# Altium footprint library QFP - Corner Index.PcbLib: 29 footprints (part 2 of 2)
Each footprint in its own frame and in the unit in brackets; x right, y up, seen from the top. Pads: shape width x height; smd on the part's side, far side on the other; paste and mask are expansions set on the pad; w line width, h text height; cw(c..) or ccw(c..) is an arc to the next point about the centre after c.
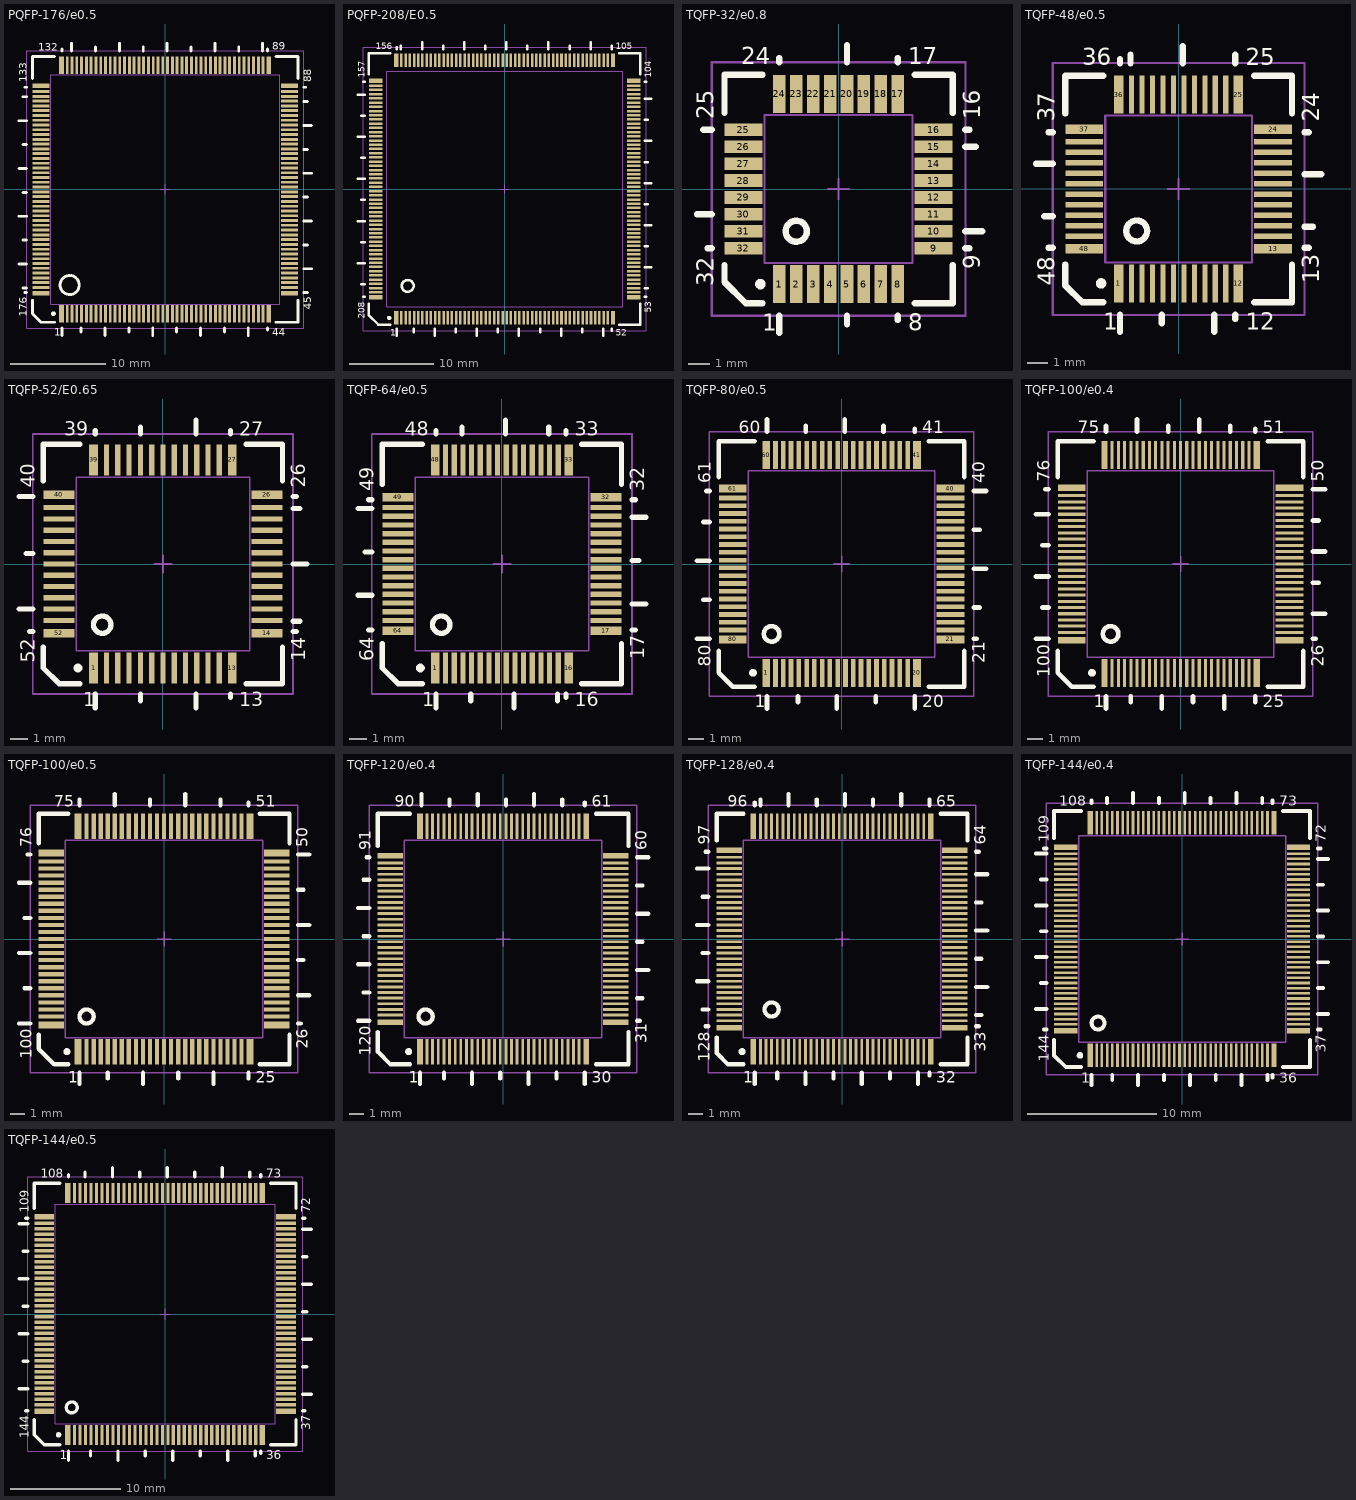
[diagram p1: the footprints below, top view; thin cyan lines are the x and y axes]

## PQFP-176/e0.5 [mm] "PQFP-176; JEDEC MS-026BGA; Body 24.00x24.00x1.40mm; Pitch 0.5mm;"
height 1.4
pads (176):
  rect 0.5x1.8 smd mask+0.1: 1(-10.85,-13) 44(10.85,-13) 89(10.85,13) 132(-10.85,13)
  rect 0.3x1.8 smd mask+0.1: 2(-10.25,-13) 3(-9.75,-13) 4(-9.25,-13) 5(-8.75,-13) 6(-8.25,-13) 7(-7.75,-13) 8(-7.25,-13) 9(-6.75,-13) 10(-6.25,-13) 11(-5.75,-13) 12(-5.25,-13) 13(-4.75,-13) 14(-4.25,-13) 15(-3.75,-13) 16(-3.25,-13) 17(-2.75,-13) 18(-2.25,-13) 19(-1.75,-13) 20(-1.25,-13) 21(-0.75,-13) 22(-0.25,-13) 23(0.25,-13) 24(0.75,-13) 25(1.25,-13) 26(1.75,-13) 27(2.25,-13) 28(2.75,-13) 29(3.25,-13) 30(3.75,-13) 31(4.25,-13) 32(4.75,-13) 33(5.25,-13) 34(5.75,-13) 35(6.25,-13) 36(6.75,-13) 37(7.25,-13) 38(7.75,-13) 39(8.25,-13) 40(8.75,-13) 41(9.25,-13) 42(9.75,-13) 43(10.25,-13) 90(10.25,13) 91(9.75,13) 92(9.25,13) 93(8.75,13) 94(8.25,13) 95(7.75,13) 96(7.25,13) 97(6.75,13) 98(6.25,13) 99(5.75,13) 100(5.25,13) 101(4.75,13) 102(4.25,13) 103(3.75,13) 104(3.25,13) 105(2.75,13) 106(2.25,13) 107(1.75,13) 108(1.25,13) 109(0.75,13) 110(0.25,13) 111(-0.25,13) 112(-0.75,13) 113(-1.25,13) 114(-1.75,13) 115(-2.25,13) 116(-2.75,13) 117(-3.25,13) 118(-3.75,13) 119(-4.25,13) 120(-4.75,13) 121(-5.25,13) 122(-5.75,13) 123(-6.25,13) 124(-6.75,13) 125(-7.25,13) 126(-7.75,13) 127(-8.25,13) 128(-8.75,13) 129(-9.25,13) 130(-9.75,13) 131(-10.25,13)
  rect 1.8x0.5 smd mask+0.1: 45(13,-10.85) 88(13,10.85) 133(-13,10.85) 176(-13,-10.85)
  rect 1.8x0.3 smd mask+0.1: 46(13,-10.25) 47(13,-9.75) 48(13,-9.25) 49(13,-8.75) 50(13,-8.25) 51(13,-7.75) 52(13,-7.25) 53(13,-6.75) 54(13,-6.25) 55(13,-5.75) 56(13,-5.25) 57(13,-4.75) 58(13,-4.25) 59(13,-3.75) 60(13,-3.25) 61(13,-2.75) 62(13,-2.25) 63(13,-1.75) 64(13,-1.25) 65(13,-0.75) 66(13,-0.25) 67(13,0.25) 68(13,0.75) 69(13,1.25) 70(13,1.75) 71(13,2.25) 72(13,2.75) 73(13,3.25) 74(13,3.75) 75(13,4.25) 76(13,4.75) 77(13,5.25) 78(13,5.75) 79(13,6.25) 80(13,6.75) 81(13,7.25) 82(13,7.75) 83(13,8.25) 84(13,8.75) 85(13,9.25) 86(13,9.75) 87(13,10.25) 134(-13,10.25) 135(-13,9.75) 136(-13,9.25) 137(-13,8.75) 138(-13,8.25) 139(-13,7.75) 140(-13,7.25) 141(-13,6.75) 142(-13,6.25) 143(-13,5.75) 144(-13,5.25) 145(-13,4.75) 146(-13,4.25) 147(-13,3.75) 148(-13,3.25) 149(-13,2.75) 150(-13,2.25) 151(-13,1.75) 152(-13,1.25) 153(-13,0.75) 154(-13,0.25) 155(-13,-0.25) 156(-13,-0.75) 157(-13,-1.25) 158(-13,-1.75) 159(-13,-2.25) 160(-13,-2.75) 161(-13,-3.25) 162(-13,-3.75) 163(-13,-4.25) 164(-13,-4.75) 165(-13,-5.25) 166(-13,-5.75) 167(-13,-6.25) 168(-13,-6.75) 169(-13,-7.25) 170(-13,-7.75) 171(-13,-8.25) 172(-13,-8.75) 173(-13,-9.25) 174(-13,-9.75) 175(-13,-10.25)
Top Overlay:
  circle w0.3: c-10,-10 r1
  circle w0.3: c-11.7,-13 r0.1
  lines w0.3: -15.3,-7.8 -14.5,-7.8 ; -15.3,-2.8 -14.5,-2.8 ; -15.3,2.2 -14.5,2.2 ; -15.3,7.2 -14.5,7.2 ; -14.9,-10.3 -14.5,-10.3 ; -14.9,-5.3 -14.5,-5.3 ; -14.9,-0.3 -14.5,-0.3 ; -14.9,4.7 -14.5,4.7 ; -14.9,9.7 -14.5,9.7 ; -14.7,-10.8 -14.5,-10.8 ; -14.7,10.7 -14.5,10.7 ; -13.9,-11.6 -13.9,-13 -13,-13.9 -11.6,-13.9 ; -13.9,11.6 -13.9,13.9 -11.6,13.9 ; -10.8,-15.3 -10.8,-14.5 ; -10.8,14.5 -10.8,14.7 ; -9.8,14.5 -9.8,15.3 ; -8.8,-14.9 -8.8,-14.5 ; -7.3,14.5 -7.3,14.9 ; -6.3,-15.3 -6.3,-14.5 ; -4.8,14.5 -4.8,15.3 ; -3.8,-14.9 -3.8,-14.5 ; -2.3,14.5 -2.3,14.9 ; -1.3,-15.3 -1.3,-14.5 ; 0.2,14.5 0.2,15.3 ; 1.2,-14.9 1.2,-14.5 ; 2.7,14.5 2.7,14.9 ; 3.7,-15.3 3.7,-14.5 ; 5.2,14.5 5.2,15.3 ; 6.2,-14.9 6.2,-14.5 ; 7.7,14.5 7.7,14.9 ; 8.7,-15.3 8.7,-14.5 ; 10.2,14.5 10.2,15.3 ; 10.7,-14.7 10.7,-14.5 ; 10.7,14.5 10.7,14.7 ; 11.6,-13.9 13.9,-13.9 13.9,-11.6 ; 11.6,13.9 13.9,13.9 13.9,11.6 ; 14.5,-10.8 14.9,-10.8 ; 14.5,-8.3 15.3,-8.3 ; 14.5,-5.8 14.9,-5.8 ; 14.5,-3.3 15.3,-3.3 ; 14.5,-0.8 14.9,-0.8 ; 14.5,1.7 15.3,1.7 ; 14.5,4.2 14.9,4.2 ; 14.5,6.7 15.3,6.7 ; 14.5,9.2 14.9,9.2 ; 14.5,10.7 14.7,10.7
  text "88" at 15.3,11.2 h0.8
  text "45" at 15.3,-12.6 h0.8
  text "44" at 11.2,-15.3 h0.8
  text "1" at -11.6,-15.3 h0.8
  text "89" at 11.2,14.6 h0.8
  text "132" at -13.3,14.5 h0.8
  text "133" at -14.5,11.2 h0.8
  text "176" at -14.5,-13.3 h0.8
Package:
  circle w0.1: c-10,-10 r1
  lines w0.1: -12,-12 12,-12 12,12 -12,12 -12,-12
Courtyard:
  lines w0.1: -0.5,0 0.5,0 ; 0,-0.5 0,0.5 ; -14.5,-14.5 14.5,-14.5 14.5,14.5 -14.5,14.5 -14.5,-14.5
3D body: height 1.4, standoff 0.1, extent -12,-12 12,12

## PQFP-208/E0.5 [mm] "PQFP-208; JEDEC MO-029FA-1; Body 28.00x28.00x3.80mm; Pitch 0.5mm;"
height 3.8
pads (208):
  rect 0.5x1.6 smd mask+0.1: 1(-12.85,-15.3) 52(12.85,-15.3) 105(12.85,15.3) 156(-12.85,15.3)
  rect 0.3x1.6 smd mask+0.1: 2(-12.25,-15.3) 3(-11.75,-15.3) 4(-11.25,-15.3) 5(-10.75,-15.3) 6(-10.25,-15.3) 7(-9.75,-15.3) 8(-9.25,-15.3) 9(-8.75,-15.3) 10(-8.25,-15.3) 11(-7.75,-15.3) 12(-7.25,-15.3) 13(-6.75,-15.3) 14(-6.25,-15.3) 15(-5.75,-15.3) 16(-5.25,-15.3) 17(-4.75,-15.3) 18(-4.25,-15.3) 19(-3.75,-15.3) 20(-3.25,-15.3) 21(-2.75,-15.3) 22(-2.25,-15.3) 23(-1.75,-15.3) 24(-1.25,-15.3) 25(-0.75,-15.3) 26(-0.25,-15.3) 27(0.25,-15.3) 28(0.75,-15.3) 29(1.25,-15.3) 30(1.75,-15.3) 31(2.25,-15.3) 32(2.75,-15.3) 33(3.25,-15.3) 34(3.75,-15.3) 35(4.25,-15.3) 36(4.75,-15.3) 37(5.25,-15.3) 38(5.75,-15.3) 39(6.25,-15.3) 40(6.75,-15.3) 41(7.25,-15.3) 42(7.75,-15.3) 43(8.25,-15.3) 44(8.75,-15.3) 45(9.25,-15.3) 46(9.75,-15.3) 47(10.25,-15.3) 48(10.75,-15.3) 49(11.25,-15.3) 50(11.75,-15.3) 51(12.25,-15.3) 106(12.25,15.3) 107(11.75,15.3) 108(11.25,15.3) 109(10.75,15.3) 110(10.25,15.3) 111(9.75,15.3) 112(9.25,15.3) 113(8.75,15.3) 114(8.25,15.3) 115(7.75,15.3) 116(7.25,15.3) 117(6.75,15.3) 118(6.25,15.3) 119(5.75,15.3) 120(5.25,15.3) 121(4.75,15.3) 122(4.25,15.3) 123(3.75,15.3) 124(3.25,15.3) 125(2.75,15.3) 126(2.25,15.3) 127(1.75,15.3) 128(1.25,15.3) 129(0.75,15.3) 130(0.25,15.3) 131(-0.25,15.3) 132(-0.75,15.3) 133(-1.25,15.3) 134(-1.75,15.3) 135(-2.25,15.3) 136(-2.75,15.3) 137(-3.25,15.3) 138(-3.75,15.3) 139(-4.25,15.3) 140(-4.75,15.3) 141(-5.25,15.3) 142(-5.75,15.3) 143(-6.25,15.3) 144(-6.75,15.3) 145(-7.25,15.3) 146(-7.75,15.3) 147(-8.25,15.3) 148(-8.75,15.3) 149(-9.25,15.3) 150(-9.75,15.3) 151(-10.25,15.3) 152(-10.75,15.3) 153(-11.25,15.3) 154(-11.75,15.3) 155(-12.25,15.3)
  rect 1.6x0.5 smd mask+0.1: 53(15.3,-12.85) 104(15.3,12.85) 157(-15.3,12.85) 208(-15.3,-12.85)
  rect 1.6x0.3 smd mask+0.1: 54(15.3,-12.25) 55(15.3,-11.75) 56(15.3,-11.25) 57(15.3,-10.75) 58(15.3,-10.25) 59(15.3,-9.75) 60(15.3,-9.25) 61(15.3,-8.75) 62(15.3,-8.25) 63(15.3,-7.75) 64(15.3,-7.25) 65(15.3,-6.75) 66(15.3,-6.25) 67(15.3,-5.75) 68(15.3,-5.25) 69(15.3,-4.75) 70(15.3,-4.25) 71(15.3,-3.75) 72(15.3,-3.25) 73(15.3,-2.75) 74(15.3,-2.25) 75(15.3,-1.75) 76(15.3,-1.25) 77(15.3,-0.75) 78(15.3,-0.25) 79(15.3,0.25) 80(15.3,0.75) 81(15.3,1.25) 82(15.3,1.75) 83(15.3,2.25) 84(15.3,2.75) 85(15.3,3.25) 86(15.3,3.75) 87(15.3,4.25) 88(15.3,4.75) 89(15.3,5.25) 90(15.3,5.75) 91(15.3,6.25) 92(15.3,6.75) 93(15.3,7.25) 94(15.3,7.75) 95(15.3,8.25) 96(15.3,8.75) 97(15.3,9.25) 98(15.3,9.75) 99(15.3,10.25) 100(15.3,10.75) 101(15.3,11.25) 102(15.3,11.75) 103(15.3,12.25) 158(-15.3,12.25) 159(-15.3,11.75) 160(-15.3,11.25) 161(-15.3,10.75) 162(-15.3,10.25) 163(-15.3,9.75) 164(-15.3,9.25) 165(-15.3,8.75) 166(-15.3,8.25) 167(-15.3,7.75) 168(-15.3,7.25) 169(-15.3,6.75) 170(-15.3,6.25) 171(-15.3,5.75) 172(-15.3,5.25) 173(-15.3,4.75) 174(-15.3,4.25) 175(-15.3,3.75) 176(-15.3,3.25) 177(-15.3,2.75) 178(-15.3,2.25) 179(-15.3,1.75) 180(-15.3,1.25) 181(-15.3,0.75) 182(-15.3,0.25) 183(-15.3,-0.25) 184(-15.3,-0.75) 185(-15.3,-1.25) 186(-15.3,-1.75) 187(-15.3,-2.25) 188(-15.3,-2.75) 189(-15.3,-3.25) 190(-15.3,-3.75) 191(-15.3,-4.25) 192(-15.3,-4.75) 193(-15.3,-5.25) 194(-15.3,-5.75) 195(-15.3,-6.25) 196(-15.3,-6.75) 197(-15.3,-7.25) 198(-15.3,-7.75) 199(-15.3,-8.25) 200(-15.3,-8.75) 201(-15.3,-9.25) 202(-15.3,-9.75) 203(-15.3,-10.25) 204(-15.3,-10.75) 205(-15.3,-11.25) 206(-15.3,-11.75) 207(-15.3,-12.25)
Top Overlay:
  circle w0.3: c-11.5,-11.5 r0.7
  circle w0.3: c-13.7,-15.3 r0.1
  lines w0.3: -17.4,-8.8 -16.6,-8.8 ; -17.4,-3.8 -16.6,-3.8 ; -17.4,1.2 -16.6,1.2 ; -17.4,6.2 -16.6,6.2 ; -17.4,11.2 -16.6,11.2 ; -17,-11.3 -16.6,-11.3 ; -17,-6.3 -16.6,-6.3 ; -17,-1.3 -16.6,-1.3 ; -17,3.7 -16.6,3.7 ; -17,8.7 -16.6,8.7 ; -16.8,-12.8 -16.6,-12.8 ; -16.8,12.7 -16.6,12.7 ; -16.1,-13.6 -16.1,-15 -15,-16.1 -13.6,-16.1 ; -16.1,13.6 -16.1,16.1 -13.6,16.1 ; -12.8,-17.4 -12.8,-16.6 ; -12.8,16.6 -12.8,16.8 ; -12.3,16.6 -12.3,17 ; -10.8,-17 -10.8,-16.6 ; -9.8,16.6 -9.8,17.4 ; -8.3,-17.4 -8.3,-16.6 ; -7.3,16.6 -7.3,17 ; -5.8,-17 -5.8,-16.6 ; -4.8,16.6 -4.8,17.4 ; -3.3,-17.4 -3.3,-16.6 ; -2.3,16.6 -2.3,17 ; -0.8,-17 -0.8,-16.6 ; 0.2,16.6 0.2,17.4 ; 1.7,-17.4 1.7,-16.6 ; 2.7,16.6 2.7,17 ; 4.2,-17 4.2,-16.6 ; 5.2,16.6 5.2,17.4 ; 6.7,-17.4 6.7,-16.6 ; 7.7,16.6 7.7,17 ; 9.2,-17 9.2,-16.6 ; 10.2,16.6 10.2,17.4 ; 11.7,-17.4 11.7,-16.6 ; 12.7,-16.8 12.7,-16.6 ; 12.7,16.6 12.7,17 ; 13.6,-16.1 16.1,-16.1 16.1,-13.6 ; 13.6,16.1 16.1,16.1 16.1,13.6 ; 16.6,-12.8 16.8,-12.8 ; 16.6,-11.8 17,-11.8 ; 16.6,-9.3 17.4,-9.3 ; 16.6,-6.8 17,-6.8 ; 16.6,-4.3 17.4,-4.3 ; 16.6,-1.8 17,-1.8 ; 16.6,0.7 17.4,0.7 ; 16.6,3.2 17,3.2 ; 16.6,5.7 17.4,5.7 ; 16.6,8.2 17,8.2 ; 16.6,10.7 17.4,10.7 ; 16.6,12.7 16.8,12.7
  text "208" at -16.6,-15.4 h0.8
  text "157" at -16.6,13.2 h0.8
  text "156" at -15.3,16.6 h0.8
  text "105" at 13.2,16.6 h0.8
  text "104" at 17.4,13.2 h0.8
  text "53" at 17.4,-14.7 h0.8
  text "52" at 13.2,-17.4 h0.8
  text "1" at -13.6,-17.4 h0.8
Package:
  circle w0.1: c-11.5,-11.5 r0.7
  lines w0.1: -14,-14 14,-14 14,14 -14,14 -14,-14
Courtyard:
  lines w0.1: -0.5,0 0.5,0 ; 0,-0.5 0,0.5 ; -16.8,-16.8 16.8,-16.8 16.8,16.8 -16.8,16.8 -16.8,-16.8
3D body: height 3.2, standoff 0, extent -14,-14 14,14

## TQFP-32/e0.8 [mm] "TQFP-32; JEDEC MS-026ABA; Body 7.00x7.00x1.00mm; Pitch 0.8mm;"
height 1
pads (32):
  rect 0.6x1.8 smd paste+0 mask+0.1: 1(-2.8,-4.5) 2(-2,-4.5) 4(-0.4,-4.5) 5(0.4,-4.5) 6(1.2,-4.5) 7(2,-4.5) 8(2.8,-4.5) 17(2.8,4.5) 18(2,4.5) 19(1.2,4.5) 20(0.4,4.5) 21(-0.4,4.5) 22(-1.2,4.5) 24(-2.8,4.5)
  rect 0.6x1.8 smd mask+0.1: 3(-1.2,-4.5) 23(-2,4.5)
  rect 1.8x0.6 smd paste+0 mask+0.1: 9(4.5,-2.8) 10(4.5,-2) 12(4.5,-0.4) 13(4.5,0.4) 14(4.5,1.2) 15(4.5,2) 16(4.5,2.8) 26(-4.5,2) 28(-4.5,0.4) 29(-4.5,-0.4) 30(-4.5,-1.2) 31(-4.5,-2) 32(-4.5,-2.8)
  rect 1.8x0.6 smd mask+0.1: 11(4.5,-1.2) 25(-4.5,2.8) 27(-4.5,1.2)
Top Overlay:
  circle w0.3: c-3.7,-4.5 r0.1
  circle w0.3: c-2,-2 r0.5
  lines w0.3: -6.7,-1.2 -6,-1.2 ; -6.4,2.8 -6,2.8 ; -6.2,-2.8 -6,-2.8 ; -5.4,-3.6 -5.4,-4.4 -4.4,-5.4 -3.6,-5.4 ; -5.4,3.6 -5.4,5.4 -3.6,5.4 ; -2.8,-6.8 -2.8,-6 ; -2.8,6 -2.8,6.2 ; 0.4,-6.4 0.4,-6 ; 0.4,6 0.4,6.8 ; 2.8,-6.2 2.8,-6 ; 2.8,6 2.8,6.2 ; 3.6,-5.4 5.4,-5.4 5.4,-3.6 ; 3.6,5.4 5.4,5.4 5.4,3.6 ; 6,-2.8 6.2,-2.8 ; 6,-2 6.8,-2 ; 6,2 6.5,2 ; 6,2.8 6.2,2.8
  text "1" at -3.6,-6.7 h0.8
  text "8" at 3.3,-6.7 h0.8
  text "9" at 6.7,-3.8 h0.8
  text "16" at 6.7,3.3 h0.8
  text "17" at 3.3,5.9 h0.8
  text "24" at -4.6,5.9 h0.8
  text "25" at -5.9,3.3 h0.8
  text "32" at -5.9,-4.6 h0.8
Package:
  circle w0.1: c-2,-2 r0.5
  lines w0.1: -3.5,-3.5 -3.5,3.5 3.5,3.5 3.5,-3.5 -3.5,-3.5
Courtyard:
  lines w0.1: -0.5,0 0.5,0 ; 0,-0.5 0,0.5 ; -6,-6 6,-6 6,6 -6,6 -6,-6
3D body: height 1, standoff 0.1, extent -3.5,-3.5 3.5,3.5

## TQFP-48/e0.5 [mm] "TQFP-48; JEDEC MS-026ABC; Body 7.00x7.00x1.20mm; Pitch 0.5mm;"
height 1.2
pads (48):
  rect 0.45x1.8 smd mask+0.1: 1(-2.85,-4.5)
  rect 0.25x1.8 smd mask+0.125: 2(-2.25,-4.5) 3(-1.75,-4.5) 4(-1.25,-4.5) 5(-0.75,-4.5) 6(-0.25,-4.5) 7(0.25,-4.5) 8(0.75,-4.5) 9(1.25,-4.5) 10(1.75,-4.5) 11(2.25,-4.5) 26(2.25,4.5) 27(1.75,4.5) 28(1.25,4.5) 29(0.75,4.5) 30(0.25,4.5) 31(-0.25,4.5) 32(-0.75,4.5) 33(-1.25,4.5) 34(-1.75,4.5) 35(-2.25,4.5)
  rect 0.45x1.8 smd mask+0.125: 12(2.85,-4.5) 25(2.85,4.5) 36(-2.85,4.5)
  rect 1.8x0.45 smd mask+0.125: 13(4.5,-2.85) 24(4.5,2.85) 37(-4.5,2.85) 48(-4.5,-2.85)
  rect 1.8x0.25 smd mask+0.125: 14(4.5,-2.25) 15(4.5,-1.75) 16(4.5,-1.25) 17(4.5,-0.75) 18(4.5,-0.25) 19(4.5,0.25) 20(4.5,0.75) 21(4.5,1.25) 22(4.5,1.75) 23(4.5,2.25) 38(-4.5,2.25) 39(-4.5,1.75) 40(-4.5,1.25) 41(-4.5,0.75) 42(-4.5,0.25) 43(-4.5,-0.25) 44(-4.5,-0.75) 45(-4.5,-1.25) 46(-4.5,-1.75) 47(-4.5,-2.25)
Top Overlay:
  circle w0.3: c-3.7,-4.5 r0.1
  circle w0.3: c-2,-2 r0.5
  lines w0.3: -6.8,1.2 -6,1.2 ; -6.4,-1.3 -6,-1.3 ; -6.2,-2.8 -6,-2.8 ; -6.2,2.7 -6,2.7 ; -5.4,-3.6 -5.4,-4.6 -4.6,-5.4 -3.6,-5.4 ; -5.4,3.6 -5.4,5.4 -3.6,5.4 ; -2.8,-6.8 -2.8,-6 ; -2.8,6 -2.8,6.2 ; -2.3,6 -2.3,6.4 ; -0.8,-6.4 -0.8,-6 ; 0.2,6 0.2,6.8 ; 1.7,-6.8 1.7,-6 ; 2.7,-6.2 2.7,-6 ; 2.7,6 2.7,6.4 ; 3.6,-5.4 5.4,-5.4 5.4,-3.6 ; 3.6,5.4 5.4,5.4 5.4,3.6 ; 6,-2.8 6.2,-2.8 ; 6,-1.8 6.4,-1.8 ; 6,0.7 6.8,0.7 ; 6,2.7 6.2,2.7
  text "48" at -5.9,-4.6 h0.8
  text "37" at -5.9,3.2 h0.8
  text "36" at -4.6,5.9 h0.8
  text "25" at 3.2,5.9 h0.8
  text "24" at 6.7,3.2 h0.8
  text "13" at 6.7,-4.5 h0.8
  text "12" at 3.2,-6.7 h0.8
  text "1" at -3.6,-6.7 h0.8
Package:
  circle w0.1: c-2,-2 r0.5
  lines w0.1: -3.5,-3.5 3.5,-3.5 3.5,3.5 -3.5,3.5 -3.5,-3.5
Courtyard:
  lines w0.1: -0.5,0 0.5,0 ; 0,-0.5 0,0.5 ; -6,-6 6,-6 6,6 -6,6 -6,-6
3D body: height 1.2, standoff 0, extent -3.5,-3.5 3.5,3.5

## TQFP-52/E0.65 [mm] "TQFP-52; JEDEC MS-026ACC; Body 10.00x10.00x1.00mm; Pitch 0.65mm;"
height 1
pads (52):
  rect 0.5x1.8 smd mask+0.1: 1(-4,-6) 13(4,-6) 27(4,6) 39(-4,6)
  rect 0.3x1.8 smd mask+0.1: 2(-3.25,-6) 3(-2.6,-6) 4(-1.95,-6) 5(-1.3,-6) 6(-0.65,-6) 7(0,-6) 8(0.65,-6) 9(1.3,-6) 10(1.95,-6) 11(2.6,-6) 12(3.25,-6) 28(3.25,6) 29(2.6,6) 30(1.95,6) 31(1.3,6) 32(0.65,6) 33(0,6) 34(-0.65,6) 35(-1.3,6) 36(-1.95,6) 37(-2.6,6) 38(-3.25,6)
  rect 1.8x0.5 smd mask+0.1: 14(6,-4) 26(6,4) 40(-6,4) 52(-6,-4)
  rect 1.8x0.3 smd mask+0.1: 15(6,-3.25) 16(6,-2.6) 17(6,-1.95) 18(6,-1.3) 19(6,-0.65) 20(6,0) 21(6,0.65) 22(6,1.3) 23(6,1.95) 24(6,2.6) 25(6,3.25) 41(-6,3.25) 42(-6,2.6) 43(-6,1.95) 44(-6,1.3) 45(-6,0.65) 46(-6,0) 47(-6,-0.65) 48(-6,-1.3) 49(-6,-1.95) 50(-6,-2.6) 51(-6,-3.25)
Top Overlay:
  circle w0.3: c-4.9,-6 r0.1
  circle w0.3: c-3.5,-3.5 r0.5
  lines w0.3: -8.3,-2.6 -7.5,-2.6 ; -8.3,3.9 -7.5,3.9 ; -7.9,0.6 -7.5,0.6 ; -7.7,-3.9 -7.5,-3.9 ; -6.9,-4.8 -6.9,-6 -6,-6.9 -4.8,-6.9 ; -6.9,4.8 -6.9,6.9 -4.8,6.9 ; -3.9,-8.3 -3.9,-7.5 ; -3.9,7.5 -3.9,7.7 ; -1.3,-7.9 -1.3,-7.5 ; -1.3,7.5 -1.3,7.9 ; 1.9,-8.3 1.9,-7.5 ; 1.9,7.5 1.9,8.3 ; 3.9,-7.7 3.9,-7.5 ; 3.9,7.5 3.9,7.7 ; 4.8,-6.9 6.9,-6.9 6.9,-4.8 ; 4.8,6.9 6.9,6.9 6.9,4.8 ; 7.5,-3.9 7.7,-3.9 ; 7.5,-3.3 7.9,-3.3 ; 7.5,0 8.3,0 ; 7.5,3.2 7.9,3.2 ; 7.5,3.9 7.7,3.9
  text "52" at -7.4,-5.7 h0.8
  text "40" at -7.4,4.4 h0.8
  text "39" at -5.7,7.4 h0.8
  text "27" at 4.4,7.4 h0.8
  text "26" at 8.2,4.4 h0.8
  text "14" at 8.2,-5.6 h0.8
  text "13" at 4.4,-8.2 h0.8
  text "1" at -4.6,-8.2 h0.8
Package:
  circle w0.1: c-3.5,-3.5 r0.5
  lines w0.1: -5,-5 -5,5 5,5 5,-5 -5,-5
Courtyard:
  lines w0.1: -0.5,0 0.5,0 ; 0,-0.5 0,0.5 ; -7.5,-7.5 -7.5,7.5 7.5,7.5 7.5,-7.5 -7.5,-7.5
3D body: height 1, standoff 0, extent -5,-5 5,5

## TQFP-64/e0.5 [mm] "TQFP-64; JEDEC MS-026ACD; Body 10.00x10.00x1.20mm; Pitch 0.5mm;"
height 1.2
pads (64):
  rect 0.5x1.8 smd mask+0.1: 1(-3.85,-6) 16(3.85,-6) 33(3.85,6) 48(-3.85,6)
  rect 0.3x1.8 smd mask+0.1: 2(-3.25,-6) 3(-2.75,-6) 4(-2.25,-6) 5(-1.75,-6) 6(-1.25,-6) 7(-0.75,-6) 8(-0.25,-6) 9(0.25,-6) 10(0.75,-6) 11(1.25,-6) 12(1.75,-6) 13(2.25,-6) 14(2.75,-6) 15(3.25,-6) 34(3.25,6) 35(2.75,6) 36(2.25,6) 37(1.75,6) 38(1.25,6) 39(0.75,6) 40(0.25,6) 41(-0.25,6) 42(-0.75,6) 43(-1.25,6) 44(-1.75,6) 45(-2.25,6) 46(-2.75,6) 47(-3.25,6)
  rect 1.8x0.5 smd mask+0.1: 17(6,-3.85) 32(6,3.85) 49(-6,3.85) 64(-6,-3.85)
  rect 1.8x0.3 smd mask+0.1: 18(6,-3.25) 19(6,-2.75) 20(6,-2.25) 21(6,-1.75) 22(6,-1.25) 23(6,-0.75) 24(6,-0.25) 25(6,0.25) 26(6,0.75) 27(6,1.25) 28(6,1.75) 29(6,2.25) 30(6,2.75) 31(6,3.25) 50(-6,3.25) 51(-6,2.75) 52(-6,2.25) 53(-6,1.75) 54(-6,1.25) 55(-6,0.75) 56(-6,0.25) 57(-6,-0.25) 58(-6,-0.75) 59(-6,-1.25) 60(-6,-1.75) 61(-6,-2.25) 62(-6,-2.75) 63(-6,-3.25)
Top Overlay:
  circle w0.3: c-3.5,-3.5 r0.5
  circle w0.3: c-4.7,-6 r0.1
  lines w0.3: -8.3,-1.8 -7.5,-1.8 ; -8.3,3.2 -7.5,3.2 ; -7.9,0.7 -7.5,0.7 ; -7.7,-3.8 -7.5,-3.8 ; -7.7,3.7 -7.5,3.7 ; -6.9,-4.6 -6.9,-6 -6,-6.9 -4.6,-6.9 ; -6.9,4.6 -6.9,6.9 -4.6,6.9 ; -3.8,-8.3 -3.8,-7.5 ; -3.8,7.5 -3.8,7.7 ; -2.3,7.5 -2.3,7.9 ; -1.8,-7.9 -1.8,-7.5 ; 0.2,7.5 0.2,8.3 ; 0.7,-8.3 0.7,-7.5 ; 2.7,7.5 2.7,7.9 ; 3.2,-7.9 3.2,-7.5 ; 3.7,-7.7 3.7,-7.5 ; 3.7,7.5 3.7,7.7 ; 4.6,-6.9 6.9,-6.9 6.9,-4.6 ; 4.6,6.9 6.9,6.9 6.9,4.6 ; 7.5,-3.8 7.7,-3.8 ; 7.5,-2.3 8.3,-2.3 ; 7.5,0.2 7.9,0.2 ; 7.5,2.7 8.3,2.7 ; 7.5,3.7 7.7,3.7
  text "1" at -4.6,-8.2 h0.8
  text "16" at 4.2,-8.2 h0.8
  text "17" at 8.2,-5.5 h0.8
  text "32" at 8.2,4.2 h0.8
  text "33" at 4.2,7.4 h0.8
  text "48" at -5.6,7.4 h0.8
  text "49" at -7.4,4.2 h0.8
  text "64" at -7.4,-5.6 h0.8
Package:
  circle w0.1: c-3.5,-3.5 r0.5
  lines w0.1: -5,-5 -5,5 5,5 5,-5 -5,-5
Courtyard:
  lines w0.1: -0.5,0 0.5,0 ; 0,-0.5 0,0.5 ; -7.5,-7.5 -7.5,7.5 7.5,7.5 7.5,-7.5 -7.5,-7.5
3D body: height 1.2, standoff 0, extent -5,-5 5,5

## TQFP-80/e0.5 [mm] "LQFP-80; JEDEC MS-026ADD; Body 12.00x12.00x1.00mm; Pitch 0.5mm;"
height 1
pads (80):
  rect 0.5x1.8 smd mask+0.1: 1(-4.85,-7) 20(4.85,-7) 41(4.85,7) 60(-4.85,7)
  rect 0.3x1.8 smd mask+0.1: 2(-4.25,-7) 3(-3.75,-7) 4(-3.25,-7) 5(-2.75,-7) 6(-2.25,-7) 7(-1.75,-7) 8(-1.25,-7) 9(-0.75,-7) 10(-0.25,-7) 11(0.25,-7) 12(0.75,-7) 13(1.25,-7) 14(1.75,-7) 15(2.25,-7) 16(2.75,-7) 17(3.25,-7) 18(3.75,-7) 19(4.25,-7) 42(4.25,7) 43(3.75,7) 44(3.25,7) 45(2.75,7) 46(2.25,7) 47(1.75,7) 48(1.25,7) 49(0.75,7) 50(0.25,7) 51(-0.25,7) 52(-0.75,7) 53(-1.25,7) 54(-1.75,7) 55(-2.25,7) 56(-2.75,7) 57(-3.25,7) 58(-3.75,7) 59(-4.25,7)
  rect 1.8x0.5 smd mask+0.1: 21(7,-4.85) 40(7,4.85) 61(-7,4.85) 80(-7,-4.85)
  rect 1.8x0.3 smd mask+0.1: 22(7,-4.25) 23(7,-3.75) 24(7,-3.25) 25(7,-2.75) 26(7,-2.25) 27(7,-1.75) 28(7,-1.25) 29(7,-0.75) 30(7,-0.25) 31(7,0.25) 32(7,0.75) 33(7,1.25) 34(7,1.75) 35(7,2.25) 36(7,2.75) 37(7,3.25) 38(7,3.75) 39(7,4.25) 62(-7,4.25) 63(-7,3.75) 64(-7,3.25) 65(-7,2.75) 66(-7,2.25) 67(-7,1.75) 68(-7,1.25) 69(-7,0.75) 70(-7,0.25) 71(-7,-0.25) 72(-7,-0.75) 73(-7,-1.25) 74(-7,-1.75) 75(-7,-2.25) 76(-7,-2.75) 77(-7,-3.25) 78(-7,-3.75) 79(-7,-4.25)
Top Overlay:
  circle w0.3: c-4.5,-4.5 r0.5
  circle w0.3: c-5.7,-7 r0.1
  lines w0.3: -9.3,-4.8 -8.5,-4.8 ; -9.3,0.2 -8.5,0.2 ; -8.9,-2.3 -8.5,-2.3 ; -8.9,2.7 -8.5,2.7 ; -8.7,4.7 -8.5,4.7 ; -7.9,-5.6 -7.9,-7 -7,-7.9 -5.6,-7.9 ; -7.9,5.6 -7.9,7.9 -5.6,7.9 ; -4.8,-9.3 -4.8,-8.5 ; -4.8,8.5 -4.8,9.3 ; -2.8,-8.9 -2.8,-8.5 ; -2.3,8.5 -2.3,8.9 ; -0.3,-9.3 -0.3,-8.5 ; 0.2,8.5 0.2,9.3 ; 2.2,-8.9 2.2,-8.5 ; 2.7,8.5 2.7,8.9 ; 4.7,-9.3 4.7,-8.5 ; 4.7,8.5 4.7,8.7 ; 5.6,-7.9 7.9,-7.9 7.9,-5.6 ; 5.6,7.9 7.9,7.9 7.9,5.6 ; 8.5,-4.8 8.7,-4.8 ; 8.5,-2.8 8.9,-2.8 ; 8.5,-0.3 9.3,-0.3 ; 8.5,2.2 8.9,2.2 ; 8.5,4.7 9.3,4.7
  text "80" at -8.4,-6.6 h0.8
  text "61" at -8.4,5.2 h0.8
  text "60" at -6.6,8.4 h0.8
  text "41" at 5.2,8.4 h0.8
  text "40" at 9.2,5.2 h0.8
  text "21" at 9.2,-6.4 h0.8
  text "20" at 5.2,-9.2 h0.8
  text "1" at -5.6,-9.2 h0.8
Package:
  circle w0.1: c-4.5,-4.5 r0.5
  lines w0.1: -6,-6 -6,6 6,6 6,-6 -6,-6
Courtyard:
  lines w0.1: -0.5,0 0.5,0 ; 0,-0.5 0,0.5 ; -8.5,-8.5 8.5,-8.5 8.5,8.5 -8.5,8.5 -8.5,-8.5
3D body: height 1, standoff 0.1, extent -6,-6 6,6

## TQFP-100/e0.4 [mm] "TQFP-100; JEDEC MS-026ADE; Body 12.00x12.00x1.20mm; Pitch 0.4mm;"
height 1.2
pads (100):
  rect 0.4x1.8 smd mask+0.1: 1(-4.9,-7) 25(4.9,-7) 51(4.9,7) 75(-4.9,7)
  rect 0.2x1.8 smd mask+0.1: 2(-4.4,-7) 3(-4,-7) 4(-3.6,-7) 5(-3.2,-7) 6(-2.8,-7) 7(-2.4,-7) 8(-2,-7) 9(-1.6,-7) 10(-1.2,-7) 11(-0.8,-7) 12(-0.4,-7) 13(0,-7) 14(0.4,-7) 15(0.8,-7) 16(1.2,-7) 17(1.6,-7) 18(2,-7) 19(2.4,-7) 20(2.8,-7) 21(3.2,-7) 22(3.6,-7) 23(4,-7) 24(4.4,-7) 52(4.4,7) 53(4,7) 54(3.6,7) 55(3.2,7) 56(2.8,7) 57(2.4,7) 58(2,7) 59(1.6,7) 60(1.2,7) 61(0.8,7) 62(0.4,7) 63(0,7) 64(-0.4,7) 65(-0.8,7) 66(-1.2,7) 67(-1.6,7) 68(-2,7) 69(-2.4,7) 70(-2.8,7) 71(-3.2,7) 72(-3.6,7) 73(-4,7) 74(-4.4,7)
  rect 1.8x0.4 smd mask+0.1: 26(7,-4.9) 50(7,4.9) 76(-7,4.9) 100(-7,-4.9)
  rect 1.8x0.2 smd mask+0.1: 27(7,-4.4) 28(7,-4) 29(7,-3.6) 30(7,-3.2) 31(7,-2.8) 32(7,-2.4) 33(7,-2) 34(7,-1.6) 35(7,-1.2) 36(7,-0.8) 37(7,-0.4) 38(7,0) 39(7,0.4) 40(7,0.8) 41(7,1.2) 42(7,1.6) 43(7,2) 44(7,2.4) 45(7,2.8) 46(7,3.2) 47(7,3.6) 48(7,4) 49(7,4.4) 77(-7,4.4) 78(-7,4) 79(-7,3.6) 80(-7,3.2) 81(-7,2.8) 82(-7,2.4) 83(-7,2) 84(-7,1.6) 85(-7,1.2) 86(-7,0.8) 87(-7,0.4) 88(-7,0) 89(-7,-0.4) 90(-7,-0.8) 91(-7,-1.2) 92(-7,-1.6) 93(-7,-2) 94(-7,-2.4) 95(-7,-2.8) 96(-7,-3.2) 97(-7,-3.6) 98(-7,-4) 99(-7,-4.4)
Top Overlay:
  circle w0.3: c-5.7,-7 r0.1
  circle w0.3: c-4.5,-4.5 r0.5
  lines w0.3: -9.3,-4.8 -8.5,-4.8 ; -9.3,-0.8 -8.5,-0.8 ; -9.3,3.2 -8.5,3.2 ; -8.9,-2.8 -8.5,-2.8 ; -8.9,1.2 -8.5,1.2 ; -8.7,4.8 -8.5,4.8 ; -7.9,-5.6 -7.9,-7 -7,-7.9 -5.6,-7.9 ; -7.9,5.6 -7.9,7.9 -5.6,7.9 ; -4.8,-9.3 -4.8,-8.5 ; -4.8,8.5 -4.8,8.9 ; -3.2,-8.9 -3.2,-8.5 ; -2.8,8.5 -2.8,9.3 ; -1.2,-9.3 -1.2,-8.5 ; -0.8,8.5 -0.8,8.9 ; 0.8,-8.9 0.8,-8.5 ; 1.2,8.5 1.2,9.3 ; 2.8,-9.3 2.8,-8.5 ; 3.2,8.5 3.2,8.9 ; 4.8,-8.9 4.8,-8.5 ; 4.8,8.5 4.8,8.7 ; 5.6,-7.9 7.9,-7.9 7.9,-5.6 ; 5.6,7.9 7.9,7.9 7.9,5.6 ; 8.5,-4.8 8.7,-4.8 ; 8.5,-3.2 9.3,-3.2 ; 8.5,-1.2 8.9,-1.2 ; 8.5,0.8 9.3,0.8 ; 8.5,2.8 8.9,2.8 ; 8.5,4.8 9.3,4.8
  text "1" at -5.6,-9.2 h0.8
  text "25" at 5.3,-9.2 h0.8
  text "26" at 9.2,-6.6 h0.8
  text "50" at 9.2,5.3 h0.8
  text "51" at 5.3,8.4 h0.8
  text "75" at -6.6,8.4 h0.8
  text "76" at -8.4,5.3 h0.8
  text "100" at -8.4,-7.3 h0.8
Package:
  circle w0.1: c-4.5,-4.5 r0.5
  lines w0.1: -6,-6 6,-6 6,6 -6,6 -6,-6
Courtyard:
  lines w0.1: -0.5,0 0.5,0 ; 0,-0.5 0,0.5 ; -8.5,-8.5 8.5,-8.5 8.5,8.5 -8.5,8.5 -8.5,-8.5
3D body: height 1.2, standoff 0, extent -6,-6 6,6

## TQFP-100/e0.5 [mm] "TQFP-100; JEDEC MS-026AED; Body 14.00x14.00x1.20mm; Pitch 0.5mm;"
height 1.2
pads (100):
  rect 0.5x1.8 smd mask+0.1: 1(-6.1,-8) 25(6.1,-8) 51(6.1,8) 75(-6.1,8)
  rect 0.3x1.8 smd mask+0.1: 2(-5.5,-8) 3(-5,-8) 4(-4.5,-8) 5(-4,-8) 6(-3.5,-8) 7(-3,-8) 8(-2.5,-8) 9(-2,-8) 10(-1.5,-8) 11(-1,-8) 12(-0.5,-8) 13(0,-8) 14(0.5,-8) 15(1,-8) 16(1.5,-8) 17(2,-8) 18(2.5,-8) 19(3,-8) 20(3.5,-8) 21(4,-8) 22(4.5,-8) 23(5,-8) 24(5.5,-8) 52(5.5,8) 53(5,8) 54(4.5,8) 55(4,8) 56(3.5,8) 57(3,8) 58(2.5,8) 59(2,8) 60(1.5,8) 61(1,8) 62(0.5,8) 63(0,8) 64(-0.5,8) 65(-1,8) 66(-1.5,8) 67(-2,8) 68(-2.5,8) 69(-3,8) 70(-3.5,8) 71(-4,8) 72(-4.5,8) 73(-5,8) 74(-5.5,8)
  rect 1.8x0.5 smd mask+0.1: 26(8,-6.1) 50(8,6.1) 76(-8,6.1) 100(-8,-6.1)
  rect 1.8x0.3 smd mask+0.1: 27(8,-5.5) 28(8,-5) 29(8,-4.5) 30(8,-4) 31(8,-3.5) 32(8,-3) 33(8,-2.5) 34(8,-2) 35(8,-1.5) 36(8,-1) 37(8,-0.5) 38(8,0) 39(8,0.5) 40(8,1) 41(8,1.5) 42(8,2) 43(8,2.5) 44(8,3) 45(8,3.5) 46(8,4) 47(8,4.5) 48(8,5) 49(8,5.5) 77(-8,5.5) 78(-8,5) 79(-8,4.5) 80(-8,4) 81(-8,3.5) 82(-8,3) 83(-8,2.5) 84(-8,2) 85(-8,1.5) 86(-8,1) 87(-8,0.5) 88(-8,0) 89(-8,-0.5) 90(-8,-1) 91(-8,-1.5) 92(-8,-2) 93(-8,-2.5) 94(-8,-3) 95(-8,-3.5) 96(-8,-4) 97(-8,-4.5) 98(-8,-5) 99(-8,-5.5)
Top Overlay:
  circle w0.3: c-5.5,-5.5 r0.5
  circle w0.3: c-6.9,-8 r0.1
  lines w0.3: -10.3,-6 -9.5,-6 ; -10.3,-1 -9.5,-1 ; -10.3,4 -9.5,4 ; -9.9,-3.5 -9.5,-3.5 ; -9.9,1.5 -9.5,1.5 ; -9.7,6 -9.5,6 ; -8.9,-6.8 -8.9,-7.8 -7.8,-8.9 -6.8,-8.9 ; -8.9,6.8 -8.9,8.9 -6.8,8.9 ; -6,-10.3 -6,-9.5 ; -6,9.5 -6,9.9 ; -4,-9.9 -4,-9.5 ; -3.5,9.5 -3.5,10.3 ; -1.5,-10.3 -1.5,-9.5 ; -1,9.5 -1,9.9 ; 1,-9.9 1,-9.5 ; 1.5,9.5 1.5,10.3 ; 3.5,-10.3 3.5,-9.5 ; 4,9.5 4,9.9 ; 6,-9.9 6,-9.5 ; 6,9.5 6,9.7 ; 6.8,-8.9 8.9,-8.9 8.9,-6.8 ; 6.8,8.9 8.9,8.9 8.9,6.8 ; 9.5,-6 9.7,-6 ; 9.5,-4 10.3,-4 ; 9.5,-1.5 9.9,-1.5 ; 9.5,1 10.3,1 ; 9.5,3.5 9.9,3.5 ; 9.5,6 10.3,6
  text "100" at -9.4,-8.5 h0.8
  text "76" at -9.4,6.5 h0.8
  text "75" at -7.8,9.4 h0.8
  text "51" at 6.5,9.4 h0.8
  text "50" at 10.2,6.5 h0.8
  text "26" at 10.2,-7.8 h0.8
  text "25" at 6.5,-10.2 h0.8
  text "1" at -6.8,-10.2 h0.8
Package:
  circle w0.1: c-5.5,-5.5 r0.5
  lines w0.1: -7,-7 -7,7 7,7 7,-7 -7,-7
Courtyard:
  lines w0.1: -0.5,0 0.5,0 ; 0,-0.5 0,0.5 ; -9.5,-9.5 -9.5,9.5 9.5,9.5 9.5,-9.5 -9.5,-9.5
3D body: height 1.2, standoff 0, extent -7,-7 7,7

## TQFP-120/e0.4 [mm] "TQFP-120; JEDEC MS-026BEE; Body 14.00x14.00x1.40mm; Pitch 0.4mm;"
height 1.4
pads (120):
  rect 0.4x1.8 smd mask+0.1: 1(-5.9,-8) 30(5.9,-8) 61(5.9,8) 90(-5.9,8)
  rect 0.2x1.8 smd mask+0.1: 2(-5.4,-8) 3(-5,-8) 4(-4.6,-8) 5(-4.2,-8) 6(-3.8,-8) 7(-3.4,-8) 8(-3,-8) 9(-2.6,-8) 10(-2.2,-8) 11(-1.8,-8) 12(-1.4,-8) 13(-1,-8) 14(-0.6,-8) 15(-0.2,-8) 16(0.2,-8) 17(0.6,-8) 18(1,-8) 19(1.4,-8) 20(1.8,-8) 21(2.2,-8) 22(2.6,-8) 23(3,-8) 24(3.4,-8) 25(3.8,-8) 26(4.2,-8) 27(4.6,-8) 28(5,-8) 29(5.4,-8) 62(5.4,8) 63(5,8) 64(4.6,8) 65(4.2,8) 66(3.8,8) 67(3.4,8) 68(3,8) 69(2.6,8) 70(2.2,8) 71(1.8,8) 72(1.4,8) 73(1,8) 74(0.6,8) 75(0.2,8) 76(-0.2,8) 77(-0.6,8) 78(-1,8) 79(-1.4,8) 80(-1.8,8) 81(-2.2,8) 82(-2.6,8) 83(-3,8) 84(-3.4,8) 85(-3.8,8) 86(-4.2,8) 87(-4.6,8) 88(-5,8) 89(-5.4,8)
  rect 1.8x0.4 smd mask+0.1: 31(8,-5.9) 60(8,5.9) 91(-8,5.9) 120(-8,-5.9)
  rect 1.8x0.2 smd mask+0.1: 32(8,-5.4) 33(8,-5) 34(8,-4.6) 35(8,-4.2) 36(8,-3.8) 37(8,-3.4) 38(8,-3) 39(8,-2.6) 40(8,-2.2) 41(8,-1.8) 42(8,-1.4) 43(8,-1) 44(8,-0.6) 45(8,-0.2) 46(8,0.2) 47(8,0.6) 48(8,1) 49(8,1.4) 50(8,1.8) 51(8,2.2) 52(8,2.6) 53(8,3) 54(8,3.4) 55(8,3.8) 56(8,4.2) 57(8,4.6) 58(8,5) 59(8,5.4) 92(-8,5.4) 93(-8,5) 94(-8,4.6) 95(-8,4.2) 96(-8,3.8) 97(-8,3.4) 98(-8,3) 99(-8,2.6) 100(-8,2.2) 101(-8,1.8) 102(-8,1.4) 103(-8,1) 104(-8,0.6) 105(-8,0.2) 106(-8,-0.2) 107(-8,-0.6) 108(-8,-1) 109(-8,-1.4) 110(-8,-1.8) 111(-8,-2.2) 112(-8,-2.6) 113(-8,-3) 114(-8,-3.4) 115(-8,-3.8) 116(-8,-4.2) 117(-8,-4.6) 118(-8,-5) 119(-8,-5.4)
Top Overlay:
  circle w0.3: c-6.7,-8 r0.1
  circle w0.3: c-5.5,-5.5 r0.5
  lines w0.3: -10.3,-5.8 -9.5,-5.8 ; -10.3,-1.8 -9.5,-1.8 ; -10.3,2.2 -9.5,2.2 ; -9.9,-3.8 -9.5,-3.8 ; -9.9,0.2 -9.5,0.2 ; -9.9,4.2 -9.5,4.2 ; -9.7,5.8 -9.5,5.8 ; -8.9,-6.6 -8.9,-8 -8,-8.9 -6.6,-8.9 ; -8.9,6.6 -8.9,8.9 -6.6,8.9 ; -5.9,-10.3 -5.9,-9.5 ; -5.8,9.5 -5.8,10.3 ; -4.2,-9.9 -4.2,-9.5 ; -3.8,9.5 -3.8,9.9 ; -2.2,-10.3 -2.2,-9.5 ; -1.8,9.5 -1.8,10.3 ; -0.2,-9.9 -0.2,-9.5 ; 0.2,9.5 0.2,9.9 ; 1.8,-10.3 1.8,-9.5 ; 2.2,9.5 2.2,10.3 ; 3.8,-9.9 3.8,-9.5 ; 4.2,9.5 4.2,9.9 ; 5.8,-10.3 5.8,-9.5 ; 5.8,9.5 5.8,9.7 ; 6.6,-8.9 8.9,-8.9 8.9,-6.6 ; 6.6,8.9 8.9,8.9 8.9,6.6 ; 9.5,-5.8 9.7,-5.8 ; 9.5,-4.2 9.9,-4.2 ; 9.5,-2.2 10.3,-2.2 ; 9.5,-0.2 9.9,-0.2 ; 9.5,1.8 10.3,1.8 ; 9.5,3.8 9.9,3.8 ; 9.5,5.8 10.3,5.8
  text "120" at -9.4,-8.3 h0.8
  text "91" at -9.4,6.3 h0.8
  text "90" at -7.7,9.4 h0.8
  text "61" at 6.3,9.4 h0.8
  text "60" at 10.2,6.3 h0.8
  text "31" at 10.2,-7.4 h0.8
  text "30" at 6.3,-10.2 h0.8
  text "1" at -6.7,-10.2 h0.8
Package:
  circle w0.1: c-5.5,-5.5 r0.5
  lines w0.1: -7,-7 7,-7 7,7 -7,7 -7,-7
Courtyard:
  lines w0.1: -0.5,0 0.5,0 ; 0,-0.5 0,0.5 ; -9.5,-9.5 9.5,-9.5 9.5,9.5 -9.5,9.5 -9.5,-9.5
3D body: height 1.4, standoff 0.1, extent -7,-7 7,7

## TQFP-128/e0.4 [mm] "TQFP-128; JEDEC MS-026; Body 14.00x14.00x1.60mm; Pitch 0.4mm;"
height 1
pads (128):
  rect 0.4x1.8 smd mask+0.1: 1(-6.3,-8) 32(6.3,-8) 65(6.3,8) 96(-6.3,8)
  rect 0.2x1.8 smd mask+0.1: 2(-5.8,-8) 3(-5.4,-8) 4(-5,-8) 5(-4.6,-8) 6(-4.2,-8) 7(-3.8,-8) 8(-3.4,-8) 9(-3,-8) 10(-2.6,-8) 11(-2.2,-8) 12(-1.8,-8) 13(-1.4,-8) 14(-1,-8) 15(-0.6,-8) 16(-0.2,-8) 17(0.2,-8) 18(0.6,-8) 19(1,-8) 20(1.4,-8) 21(1.8,-8) 22(2.2,-8) 23(2.6,-8) 24(3,-8) 25(3.4,-8) 26(3.8,-8) 27(4.2,-8) 28(4.6,-8) 29(5,-8) 30(5.4,-8) 31(5.8,-8) 66(5.8,8) 67(5.4,8) 68(5,8) 69(4.6,8) 70(4.2,8) 71(3.8,8) 72(3.4,8) 73(3,8) 74(2.6,8) 75(2.2,8) 76(1.8,8) 77(1.4,8) 78(1,8) 79(0.6,8) 80(0.2,8) 81(-0.2,8) 82(-0.6,8) 83(-1,8) 84(-1.4,8) 85(-1.8,8) 86(-2.2,8) 87(-2.6,8) 88(-3,8) 89(-3.4,8) 90(-3.8,8) 91(-4.2,8) 92(-4.6,8) 93(-5,8) 94(-5.4,8) 95(-5.8,8)
  rect 1.8x0.4 smd mask+0.1: 33(8,-6.3) 64(8,6.3) 97(-8,6.3) 128(-8,-6.3)
  rect 1.8x0.2 smd mask+0.1: 34(8,-5.8) 35(8,-5.4) 36(8,-5) 37(8,-4.6) 38(8,-4.2) 39(8,-3.8) 40(8,-3.4) 41(8,-3) 42(8,-2.6) 43(8,-2.2) 44(8,-1.8) 45(8,-1.4) 46(8,-1) 47(8,-0.6) 48(8,-0.2) 49(8,0.2) 50(8,0.6) 51(8,1) 52(8,1.4) 53(8,1.8) 54(8,2.2) 55(8,2.6) 56(8,3) 57(8,3.4) 58(8,3.8) 59(8,4.2) 60(8,4.6) 61(8,5) 62(8,5.4) 63(8,5.8) 98(-8,5.8) 99(-8,5.4) 100(-8,5) 101(-8,4.6) 102(-8,4.2) 103(-8,3.8) 104(-8,3.4) 105(-8,3) 106(-8,2.6) 107(-8,2.2) 108(-8,1.8) 109(-8,1.4) 110(-8,1) 111(-8,0.6) 112(-8,0.2) 113(-8,-0.2) 114(-8,-0.6) 115(-8,-1) 116(-8,-1.4) 117(-8,-1.8) 118(-8,-2.2) 119(-8,-2.6) 120(-8,-3) 121(-8,-3.4) 122(-8,-3.8) 123(-8,-4.2) 124(-8,-4.6) 125(-8,-5) 126(-8,-5.4) 127(-8,-5.8)
Top Overlay:
  circle w0.3: c-5,-5 r0.5
  circle w0.3: c-7.1,-8 r0.1
  lines w0.3: -10.3,-3 -9.5,-3 ; -10.3,1 -9.5,1 ; -10.3,5 -9.5,5 ; -9.9,-5 -9.5,-5 ; -9.9,-1 -9.5,-1 ; -9.9,3 -9.5,3 ; -9.7,-6.2 -9.5,-6.2 ; -9.7,6.2 -9.5,6.2 ; -8.9,-7 -8.9,-8.1 -8.1,-8.9 -7,-8.9 ; -8.9,7 -8.9,8.9 -7,8.9 ; -6.2,-10.3 -6.2,-9.5 ; -6.2,9.5 -6.2,9.7 ; -5.8,9.5 -5.8,9.9 ; -4.6,-9.9 -4.6,-9.5 ; -3.8,9.5 -3.8,10.3 ; -2.6,-10.3 -2.6,-9.5 ; -1.8,9.5 -1.8,9.9 ; -0.6,-9.9 -0.6,-9.5 ; 0.2,9.5 0.2,10.3 ; 1.4,-10.3 1.4,-9.5 ; 2.2,9.5 2.2,9.9 ; 3.4,-9.9 3.4,-9.5 ; 4.2,9.5 4.2,10.3 ; 5.4,-10.3 5.4,-9.5 ; 6.2,-9.7 6.2,-9.5 ; 6.2,9.5 6.2,9.9 ; 7,-8.9 8.9,-8.9 8.9,-7 ; 7,8.9 8.9,8.9 8.9,7 ; 9.5,-6.2 9.7,-6.2 ; 9.5,-5.4 9.9,-5.4 ; 9.5,-3.4 10.3,-3.4 ; 9.5,-1.4 9.9,-1.4 ; 9.5,0.6 10.3,0.6 ; 9.5,2.6 9.9,2.6 ; 9.5,4.6 10.3,4.6 ; 9.5,6.2 9.7,6.2
  text "1" at -7,-10.2 h0.8
  text "32" at 6.7,-10.2 h0.8
  text "33" at 10.2,-8 h0.8
  text "64" at 10.2,6.7 h0.8
  text "65" at 6.7,9.4 h0.8
  text "96" at -8.1,9.4 h0.8
  text "97" at -9.4,6.7 h0.8
  text "128" at -9.4,-8.7 h0.8
Package:
  circle w0.1: c-5,-5 r0.5
  lines w0.1: -7,-7 7,-7 7,7 -7,7 -7,-7
Courtyard:
  lines w0.1: -0.5,0 0.5,0 ; 0,-0.5 0,0.5 ; -9.5,-9.5 9.5,-9.5 9.5,9.5 -9.5,9.5 -9.5,-9.5
3D body: height 1, standoff 0.1, extent -7,-7 7,7

## TQFP-144/e0.4 [mm] "TQFP-144; Body 16.00x16.00x1.20mm; Pitch 0.4mm;"
height 1.2
pads (144):
  rect 0.4x1.8 smd mask+0.1: 1(-7.1,-9) 36(7.1,-9) 73(7.1,9) 108(-7.1,9)
  rect 0.2x1.8 smd mask+0.1: 2(-6.6,-9) 3(-6.2,-9) 4(-5.8,-9) 5(-5.4,-9) 6(-5,-9) 7(-4.6,-9) 8(-4.2,-9) 9(-3.8,-9) 10(-3.4,-9) 11(-3,-9) 12(-2.6,-9) 13(-2.2,-9) 14(-1.8,-9) 15(-1.4,-9) 16(-1,-9) 17(-0.6,-9) 18(-0.2,-9) 19(0.2,-9) 20(0.6,-9) 21(1,-9) 22(1.4,-9) 23(1.8,-9) 24(2.2,-9) 25(2.6,-9) 26(3,-9) 27(3.4,-9) 28(3.8,-9) 29(4.2,-9) 30(4.6,-9) 31(5,-9) 32(5.4,-9) 33(5.8,-9) 34(6.2,-9) 35(6.6,-9) 74(6.6,9) 75(6.2,9) 76(5.8,9) 77(5.4,9) 78(5,9) 79(4.6,9) 80(4.2,9) 81(3.8,9) 82(3.4,9) 83(3,9) 84(2.6,9) 85(2.2,9) 86(1.8,9) 87(1.4,9) 88(1,9) 89(0.6,9) 90(0.2,9) 91(-0.2,9) 92(-0.6,9) 93(-1,9) 94(-1.4,9) 95(-1.8,9) 96(-2.2,9) 97(-2.6,9) 98(-3,9) 99(-3.4,9) 100(-3.8,9) 101(-4.2,9) 102(-4.6,9) 103(-5,9) 104(-5.4,9) 105(-5.8,9) 106(-6.2,9) 107(-6.6,9)
  rect 1.8x0.4 smd mask+0.1: 37(9,-7.1) 72(9,7.1) 109(-9,7.1) 144(-9,-7.1)
  rect 1.8x0.2 smd mask+0.1: 38(9,-6.6) 39(9,-6.2) 40(9,-5.8) 41(9,-5.4) 42(9,-5) 43(9,-4.6) 44(9,-4.2) 45(9,-3.8) 46(9,-3.4) 47(9,-3) 48(9,-2.6) 49(9,-2.2) 50(9,-1.8) 51(9,-1.4) 52(9,-1) 53(9,-0.6) 54(9,-0.2) 55(9,0.2) 56(9,0.6) 57(9,1) 58(9,1.4) 59(9,1.8) 60(9,2.2) 61(9,2.6) 62(9,3) 63(9,3.4) 64(9,3.8) 65(9,4.2) 66(9,4.6) 67(9,5) 68(9,5.4) 69(9,5.8) 70(9,6.2) 71(9,6.6) 110(-9,6.6) 111(-9,6.2) 112(-9,5.8) 113(-9,5.4) 114(-9,5) 115(-9,4.6) 116(-9,4.2) 117(-9,3.8) 118(-9,3.4) 119(-9,3) 120(-9,2.6) 121(-9,2.2) 122(-9,1.8) 123(-9,1.4) 124(-9,1) 125(-9,0.6) 126(-9,0.2) 127(-9,-0.2) 128(-9,-0.6) 129(-9,-1) 130(-9,-1.4) 131(-9,-1.8) 132(-9,-2.2) 133(-9,-2.6) 134(-9,-3) 135(-9,-3.4) 136(-9,-3.8) 137(-9,-4.2) 138(-9,-4.6) 139(-9,-5) 140(-9,-5.4) 141(-9,-5.8) 142(-9,-6.2) 143(-9,-6.6)
Top Overlay:
  circle w0.3: c-7.9,-9 r0.1
  circle w0.3: c-6.5,-6.5 r0.5
  lines w0.3: -11.3,-5.4 -10.5,-5.4 ; -11.3,-1.4 -10.5,-1.4 ; -11.3,2.6 -10.5,2.6 ; -11.3,6.6 -10.5,6.6 ; -10.9,-3.4 -10.5,-3.4 ; -10.9,0.6 -10.5,0.6 ; -10.9,4.6 -10.5,4.6 ; -10.7,-7 -10.5,-7 ; -10.7,7 -10.5,7 ; -9.9,-7.8 -9.9,-9 -9,-9.9 -7.8,-9.9 ; -9.9,7.8 -9.9,9.9 -7.8,9.9 ; -7,-11.3 -7,-10.5 ; -7,10.5 -7,10.7 ; -5.8,10.5 -5.8,10.9 ; -5.4,-10.9 -5.4,-10.5 ; -3.8,10.5 -3.8,11.3 ; -3.4,-11.3 -3.4,-10.5 ; -1.8,10.5 -1.8,10.9 ; -1.4,-10.9 -1.4,-10.5 ; 0.2,10.5 0.2,11.3 ; 0.6,-11.3 0.6,-10.5 ; 2.2,10.5 2.2,10.9 ; 2.6,-10.9 2.6,-10.5 ; 4.2,10.5 4.2,11.3 ; 4.6,-11.3 4.6,-10.5 ; 6.2,10.5 6.2,10.9 ; 6.6,-10.9 6.6,-10.5 ; 7,-10.7 7,-10.5 ; 7,10.5 7,10.7 ; 7.8,-9.9 9.9,-9.9 9.9,-7.8 ; 7.8,9.9 9.9,9.9 9.9,7.8 ; 10.5,-7 10.7,-7 ; 10.5,-5.8 11.3,-5.8 ; 10.5,-3.8 10.9,-3.8 ; 10.5,-1.8 11.3,-1.8 ; 10.5,0.2 10.9,0.2 ; 10.5,2.2 11.3,2.2 ; 10.5,4.2 10.9,4.2 ; 10.5,6.2 11.3,6.2 ; 10.5,7 10.7,7
  text "1" at -7.8,-11.1 h0.8
  text "36" at 7.5,-11.1 h0.8
  text "37" at 11.1,-8.8 h0.8
  text "72" at 11.1,7.5 h0.8
  text "73" at 7.5,10.3 h0.8
  text "108" at -9.5,10.3 h0.8
  text "109" at -10.3,7.5 h0.8
  text "144" at -10.3,-9.5 h0.8
Package:
  circle w0.1: c-6.5,-6.5 r0.5
  lines w0.1: -8,-8 8,-8 8,8 -8,8 -8,-8
Courtyard:
  lines w0.1: -0.5,0 0.5,0 ; 0,-0.5 0,0.5 ; -10.5,-10.5 10.5,-10.5 10.5,10.5 -10.5,10.5 -10.5,-10.5
3D body: height 1.2, standoff 0, extent -8,-8 8,8

## TQFP-144/e0.5 [mm] "LQFP-144; JEDEC MS-026AFB; Body 20.00x20.00x1.0mm; Pitch 0.5mm;"
height 1
pads (144):
  rect 0.5x1.8 smd mask+0.1: 1(-8.85,-11) 36(8.85,-11) 73(8.85,11) 108(-8.85,11)
  rect 0.3x1.8 smd mask+0.1: 2(-8.25,-11) 3(-7.75,-11) 4(-7.25,-11) 5(-6.75,-11) 6(-6.25,-11) 7(-5.75,-11) 8(-5.25,-11) 9(-4.75,-11) 10(-4.25,-11) 11(-3.75,-11) 12(-3.25,-11) 13(-2.75,-11) 14(-2.25,-11) 15(-1.75,-11) 16(-1.25,-11) 17(-0.75,-11) 18(-0.25,-11) 19(0.25,-11) 20(0.75,-11) 21(1.25,-11) 22(1.75,-11) 23(2.25,-11) 24(2.75,-11) 25(3.25,-11) 26(3.75,-11) 27(4.25,-11) 28(4.75,-11) 29(5.25,-11) 30(5.75,-11) 31(6.25,-11) 32(6.75,-11) 33(7.25,-11) 34(7.75,-11) 35(8.25,-11) 74(8.25,11) 75(7.75,11) 76(7.25,11) 77(6.75,11) 78(6.25,11) 79(5.75,11) 80(5.25,11) 81(4.75,11) 82(4.25,11) 83(3.75,11) 84(3.25,11) 85(2.75,11) 86(2.25,11) 87(1.75,11) 88(1.25,11) 89(0.75,11) 90(0.25,11) 91(-0.25,11) 92(-0.75,11) 93(-1.25,11) 94(-1.75,11) 95(-2.25,11) 96(-2.75,11) 97(-3.25,11) 98(-3.75,11) 99(-4.25,11) 100(-4.75,11) 101(-5.25,11) 102(-5.75,11) 103(-6.25,11) 104(-6.75,11) 105(-7.25,11) 106(-7.75,11) 107(-8.25,11)
  rect 1.8x0.5 smd mask+0.1: 37(11,-8.85) 72(11,8.85) 109(-11,8.85) 144(-11,-8.85)
  rect 1.8x0.3 smd mask+0.1: 38(11,-8.25) 39(11,-7.75) 40(11,-7.25) 41(11,-6.75) 42(11,-6.25) 43(11,-5.75) 44(11,-5.25) 45(11,-4.75) 46(11,-4.25) 47(11,-3.75) 48(11,-3.25) 49(11,-2.75) 50(11,-2.25) 51(11,-1.75) 52(11,-1.25) 53(11,-0.75) 54(11,-0.25) 55(11,0.25) 56(11,0.75) 57(11,1.25) 58(11,1.75) 59(11,2.25) 60(11,2.75) 61(11,3.25) 62(11,3.75) 63(11,4.25) 64(11,4.75) 65(11,5.25) 66(11,5.75) 67(11,6.25) 68(11,6.75) 69(11,7.25) 70(11,7.75) 71(11,8.25) 110(-11,8.25) 111(-11,7.75) 112(-11,7.25) 113(-11,6.75) 114(-11,6.25) 115(-11,5.75) 116(-11,5.25) 117(-11,4.75) 118(-11,4.25) 119(-11,3.75) 120(-11,3.25) 121(-11,2.75) 122(-11,2.25) 123(-11,1.75) 124(-11,1.25) 125(-11,0.75) 126(-11,0.25) 127(-11,-0.25) 128(-11,-0.75) 129(-11,-1.25) 130(-11,-1.75) 131(-11,-2.25) 132(-11,-2.75) 133(-11,-3.25) 134(-11,-3.75) 135(-11,-4.25) 136(-11,-4.75) 137(-11,-5.25) 138(-11,-5.75) 139(-11,-6.25) 140(-11,-6.75) 141(-11,-7.25) 142(-11,-7.75) 143(-11,-8.25)
Top Overlay:
  circle w0.3: c-9.7,-11 r0.1
  circle w0.3: c-8.5,-8.5 r0.5
  lines w0.3: -13.3,-6.8 -12.5,-6.8 ; -13.3,-1.8 -12.5,-1.8 ; -13.3,3.2 -12.5,3.2 ; -13.3,8.2 -12.5,8.2 ; -12.9,-4.3 -12.5,-4.3 ; -12.9,0.7 -12.5,0.7 ; -12.9,5.7 -12.5,5.7 ; -12.7,-8.8 -12.5,-8.8 ; -12.7,8.7 -12.5,8.7 ; -11.9,-9.6 -11.9,-11 -11,-11.9 -9.6,-11.9 ; -11.9,9.6 -11.9,11.9 -9.6,11.9 ; -8.8,-13.3 -8.8,-12.5 ; -8.8,12.5 -8.8,12.7 ; -7.3,12.5 -7.3,12.9 ; -6.8,-12.9 -6.8,-12.5 ; -4.8,12.5 -4.8,13.3 ; -4.3,-13.3 -4.3,-12.5 ; -2.3,12.5 -2.3,12.9 ; -1.8,-12.9 -1.8,-12.5 ; 0.2,12.5 0.2,13.3 ; 0.7,-13.3 0.7,-12.5 ; 2.7,12.5 2.7,12.9 ; 3.2,-12.9 3.2,-12.5 ; 5.2,12.5 5.2,13.3 ; 5.7,-13.3 5.7,-12.5 ; 7.7,12.5 7.7,12.9 ; 8.2,-12.9 8.2,-12.5 ; 8.7,-12.7 8.7,-12.5 ; 8.7,12.5 8.7,12.7 ; 9.6,-11.9 11.9,-11.9 11.9,-9.6 ; 9.6,11.9 11.9,11.9 11.9,9.6 ; 12.5,-8.8 12.7,-8.8 ; 12.5,-7.3 13.3,-7.3 ; 12.5,-4.8 12.9,-4.8 ; 12.5,-2.3 13.3,-2.3 ; 12.5,0.2 12.9,0.2 ; 12.5,2.7 13.3,2.7 ; 12.5,5.2 12.9,5.2 ; 12.5,7.7 13.3,7.7 ; 12.5,8.7 12.7,8.7
  text "144" at -12.4,-11.3 h0.8
  text "109" at -12.4,9.2 h0.8
  text "108" at -11.3,12.4 h0.8
  text "73" at 9.2,12.4 h0.8
  text "72" at 13.2,9.2 h0.8
  text "37" at 13.2,-10.6 h0.8
  text "36" at 9.2,-13.2 h0.8
  text "1" at -9.6,-13.2 h0.8
Package:
  circle w0.1: c-8.5,-8.5 r0.5
  lines w0.1: -10,-10 10,-10 10,10 -10,10 -10,-10
Courtyard:
  lines w0.1: -0.5,0 0.5,0 ; 0,-0.5 0,0.5 ; -12.5,-12.5 12.5,-12.5 12.5,12.5 -12.5,12.5 -12.5,-12.5
3D body: height 1, standoff 0.1, extent -10,-10 10,10